# Altium footprint library ZIN-A.PcbLib: 24 footprints (part 1 of 2)
Each footprint in its own frame and in the unit in brackets; x right, y up, seen from the top. Pads: shape width x height; smd on the part's side, far side on the other; paste and mask are expansions set on the pad; w line width, h text height; cw(c..) or ccw(c..) is an arc to the next point about the centre after c.
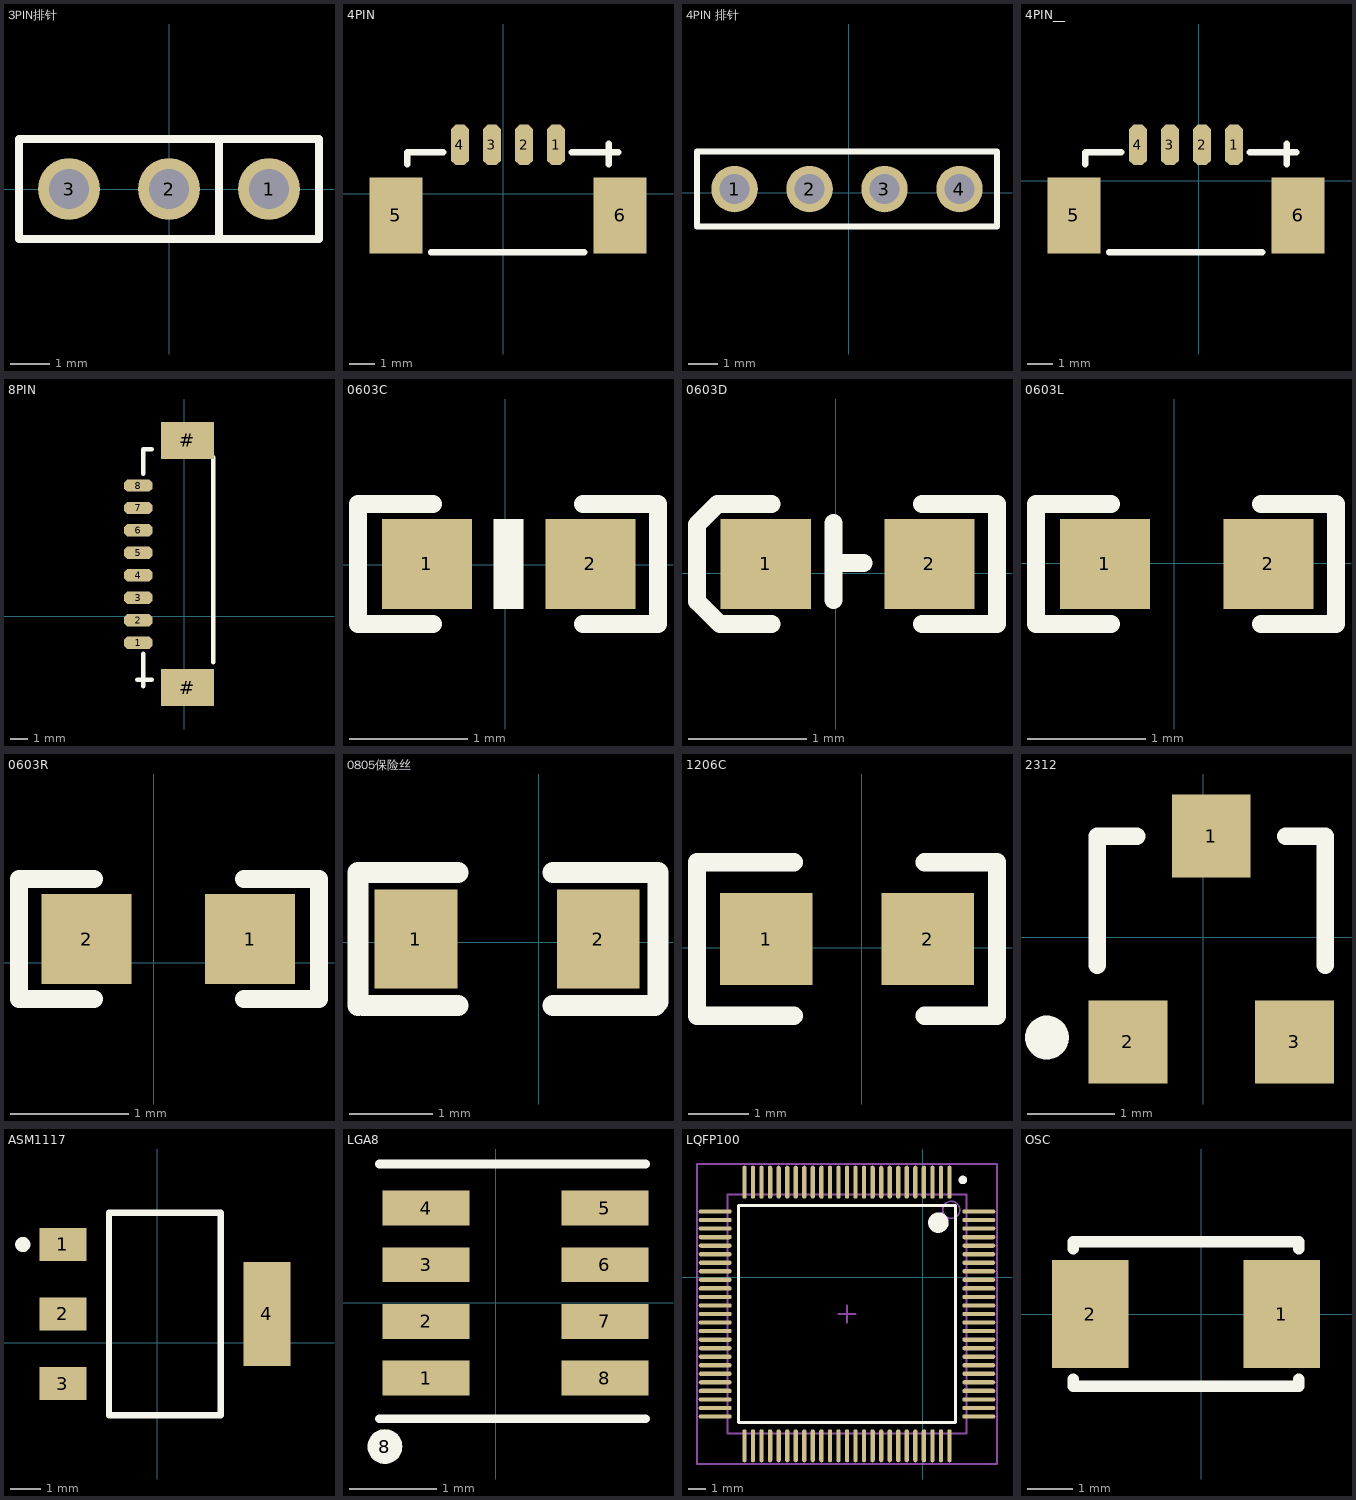
[diagram p0: the footprints below, top view; thin cyan lines are the x and y axes]

## 3PIN排针 [mil]
pads (3):
  round 62 hole 40: 1(100,0) 2(0,0) 3(-100,0)
Top Overlay:
  lines w8: 50,-50 50,50 ; -150,-50 -150,50 150,50 150,-50 -150,-50
3D body: height 290, standoff -113.3, extent -497.66,-51 111,49

## 4PIN [mm]
pads (6):
  oct 0.7x1.6 smd: 1(2.103,1.935) 2(0.833,1.935) 3(-0.437,1.935) 4(-1.707,1.935)
  rect 2.1x3 smd: 5(-4.247,-0.859) 6(4.643,-0.859)
Top Overlay:
  lines w0.254: -3.802,1.173 -3.802,1.638 -3.202,1.638 -2.368,1.638 ; -2.852,-2.312 3.223,-2.312 ; 2.727,1.638 3.553,1.638 4.198,1.638 ; 4.198,1.173 4.198,1.638 ; 4.198,1.988 4.198,1.638 ; 4.573,1.638 4.198,1.638
3D body: height 3.4, standoff 0, extent -4.872,-2.879 5.278,2.311

## 4PIN 排针 [mil]
pads (4):
  round 62 hole 40: 1(-152,5) 2(-52,5) 3(48,5) 4(148,5)
Top Overlay:
  lines w8: -202,-45 -202,55 198,55 198,-45 -202,-45

## 4PIN__ [mm]
pads (6):
  oct 0.7x1.6 smd: 1(1.391,1.427) 2(0.121,1.427) 3(-1.149,1.427) 4(-2.419,1.427)
  rect 2.1x3 smd: 5(-4.959,-1.367) 6(3.931,-1.367)
Top Overlay:
  lines w0.254: -4.514,0.665 -4.514,1.13 -3.914,1.13 -3.08,1.13 ; -3.564,-2.82 2.511,-2.82 ; 2.015,1.13 2.841,1.13 3.486,1.13 ; 3.486,0.665 3.486,1.13 ; 3.486,1.48 3.486,1.13 ; 3.861,1.13 3.486,1.13
3D body: height 4.7, standoff 0, extent -5.608,-2.718 4.542,1.382

## 8PIN [mm]
pads (10):
  oct 1.6x0.7 smd: 1(-2.607,-1.497) 2(-2.607,-0.227) 3(-2.607,1.043) 4(-2.607,2.313) 5(-2.6,3.59) 6(-2.6,4.86) 7(-2.6,6.13) 8(-2.6,7.4)
  rect 3x2.1 smd: #(0.187,-4.037) #(0.187,9.953)
Top Overlay:
  lines w0.254: -2.66,-3.592 -2.31,-3.592 ; -2.31,-3.967 -2.31,-3.592 ; -2.31,-2.121 -2.31,-2.947 -2.31,-3.592 ; -2.31,8.074 -2.31,8.908 ; -2.31,8.858 -2.31,9.458 -1.845,9.458 ; -1.845,-3.592 -2.31,-3.592 ; 1.64,-2.617 1.651,9.017
3D body: height 3.4, standoff 0, extent -3.133,-4.629 2.057,10.521

## 0603C [mil]
pads (2):
  rect 30x30 smd: 1(-26.01,0.24) 2(28.49,0.18)
Top Overlay:
  region: 6.2,-14.79 6.2,15.21 -3.8,15.21 -3.8,-14.79
  lines w6: -24.01,-19.82 -49.01,-19.82 -49.01,20.18 -24.01,20.18 ; 25.99,-19.82 50.99,-19.82 50.99,20.18 25.98,20.18
3D body: height 11.89, standoff 0, extent -31.32,-15.88 31.67,15.62

## 0603D [mil]
pads (2):
  rect 30x30 smd: 1(-23.27,3.22) 2(31.23,3.16)
Top Overlay:
  lines w6: -21.27,-16.84 -38.58,-16.84 -46.16,-9.26 -46.16,16.33 -39.33,23.16 -21.27,23.16 ; -0.69,-8.87 -0.69,16.72 ; 1.48,3.53 9.24,3.43 ; 28.73,-16.84 53.73,-16.84 53.73,23.16 28.73,23.16
3D body: height 34.92, standoff -0.51, extent -29.49,-14.52 37.44,20.91

## 0603L [mil]
pads (2):
  rect 30x30 smd: 1(-23.05,-0.11) 2(31.45,-0.18)
Top Overlay:
  lines w6: -21.05,-20.18 -46.05,-20.18 -46.05,19.82 -21.05,19.82 ; 28.95,-20.18 53.95,-20.18 53.95,19.82 28.95,19.82
3D body: height 34.92, standoff -0.51, extent -29.26,-17.86 37.67,17.58

## 0603R [mil]
pads (2):
  rect 30x30 smd: 1(32.12,7.85) 2(-22.38,7.92)
Top Overlay:
  lines w6: -19.88,-12.08 -44.88,-12.08 -44.88,27.92 -19.88,27.92 ; 30.12,-12.08 55.12,-12.08 55.12,27.92 30.12,27.92
3D body: height 17.72, standoff 0, extent -27.61,-8.81 35.38,23.47

## 0805保险丝 [mm]
pads (2):
  rect 1x1.2 smd: 1(-1.479,0.039) 2(0.721,0.039)
Top Overlay:
  lines w0.254: -2.179,-0.761 -2.179,0.839 -0.971,0.839 ; -2.117,-0.761 -0.971,-0.761 ; 0.172,-0.761 1.404,-0.761 1.442,-0.723 1.442,0.839 0.172,0.839
3D body: height 0.3, standoff 0, extent -1.504,-0.636 0.746,0.714
3D body: height 0.3, standoff 0, extent -1.829,-0.636 -1.504,0.714
3D body: height 0.3, standoff 0, extent 0.746,-0.636 1.071,0.714

## 1206C [mil]
pads (2):
  rect 60x60 smd: 1(-62.07,5.73) 2(42.93,5.73)
Top Overlay:
  lines w12: -44.07,-44.27 -107.07,-44.27 -107.07,55.73 -44.07,55.73 ; 40.93,-44.27 87.93,-44.27 87.93,55.73 40.93,55.73
3D body: height 70.87, standoff 0, extent -74.93,-30 58.93,40.87

## 2312 [mm]
pads (3):
  rect 0.9x0.95 smd: 1(0.093,1.158) 2(-0.857,-1.192) 3(1.043,-1.192)
Top Overlay:
  circle w0.25: c-1.782,-1.142 r0.125
  lines w0.2: -1.207,-0.317 -1.207,1.158 -0.757,1.158 ; 0.943,1.158 1.393,1.158 1.393,-0.317

## ASM1117 [mm]
pads (4):
  rect 1.55x1.1 smd: 1(-3.123,3.253) 2(-3.123,0.953) 3(-3.123,-1.347)
  rect 1.55x3.45 smd: 4(3.627,0.953)
Top Overlay:
  circle w0.25: c-4.448,3.253 r0.125
  lines w0.2: -1.598,-2.397 -1.598,4.303 2.102,4.303 2.102,-2.397 -1.598,-2.397
3D body: height 1.65, standoff -0.03, extent -3.355,-2.222 3.605,4.278

## LGA8 [mm]
pads (9):
  rect 1x0.4 smd: 1(-0.799,-0.867) 2(-0.799,-0.217) 3(-0.799,0.433) 4(-0.799,1.083) 5(1.251,1.083) 6(1.251,0.433) 7(1.251,-0.217) 8(1.251,-0.867)
  round 0.4 on Top Overlay: 8(-1.27,-1.651)
Top Overlay:
  lines w0.1: -1.332,-1.333 1.716,-1.333 ; -1.332,1.588 1.716,1.588
3D body: height 0.85, standoff -0.01, extent -0.746,-1.143 1.254,1.357

## LQFP100 [mm]
pads (100):
  oval 0.25x1.931 smd: 1(1.551,5.569) 2(1.051,5.569) 3(0.551,5.569) 4(0.051,5.569) 5(-0.449,5.569) 6(-0.949,5.569) 7(-1.449,5.569) 8(-1.949,5.569) 9(-2.449,5.569) 10(-2.949,5.569) 11(-3.449,5.569) 12(-3.949,5.569) 13(-4.449,5.569) 14(-4.949,5.569) 15(-5.449,5.569) 16(-5.949,5.569) 17(-6.449,5.569) 18(-6.949,5.569) 19(-7.449,5.569) 20(-7.949,5.569) 21(-8.449,5.569) 22(-8.949,5.569) 23(-9.449,5.569) 24(-9.949,5.569) 25(-10.449,5.569) 51(-10.449,-9.862) 52(-9.949,-9.862) 53(-9.449,-9.862) 54(-8.949,-9.862) 55(-8.449,-9.862) 56(-7.949,-9.862) 57(-7.449,-9.862) 58(-6.949,-9.862) 59(-6.449,-9.862) 60(-5.949,-9.862) 61(-5.449,-9.862) 62(-4.949,-9.862) 63(-4.449,-9.862) 64(-3.949,-9.862) 65(-3.449,-9.862) 66(-2.949,-9.862) 67(-2.449,-9.862) 68(-1.949,-9.862) 69(-1.449,-9.862) 70(-0.949,-9.862) 71(-0.449,-9.862) 72(0.051,-9.862) 73(0.551,-9.862) 74(1.051,-9.862) 75(1.551,-9.862)
  oval 1.931x0.25 smd: 26(-12.164,3.854) 27(-12.164,3.354) 28(-12.164,2.854) 29(-12.164,2.354) 30(-12.164,1.854) 31(-12.164,1.354) 32(-12.164,0.854) 33(-12.164,0.354) 34(-12.164,-0.146) 35(-12.164,-0.646) 36(-12.164,-1.146) 37(-12.164,-1.646) 38(-12.164,-2.146) 39(-12.164,-2.646) 40(-12.164,-3.146) 41(-12.164,-3.646) 42(-12.164,-4.146) 43(-12.164,-4.646) 44(-12.164,-5.146) 45(-12.164,-5.646) 46(-12.164,-6.146) 47(-12.164,-6.646) 48(-12.164,-7.146) 49(-12.164,-7.646) 50(-12.164,-8.146) 76(3.267,-8.146) 77(3.267,-7.646) 78(3.267,-7.146) 79(3.267,-6.646) 80(3.267,-6.146) 81(3.267,-5.646) 82(3.267,-5.146) 83(3.267,-4.646) 84(3.267,-4.146) 85(3.267,-3.646) 86(3.267,-3.146) 87(3.267,-2.646) 88(3.267,-2.146) 89(3.267,-1.646) 90(3.267,-1.146) 91(3.267,-0.646) 92(3.267,-0.146) 93(3.267,0.354) 94(3.267,0.854) 95(3.267,1.354) 96(3.267,1.854) 97(3.267,2.354) 98(3.267,2.854) 99(3.267,3.354) 100(3.267,3.854)
Top Overlay:
  circle w0.6: c0.901,3.204 r0.3
  circle w0.25: c2.334,5.704 r0.125
  lines w0.2: -10.799,-8.496 -10.799,4.204 1.901,4.204 1.901,-8.496 -10.799,-8.496
Mechanical 13:
  circle w0.1: c1.651,3.954 r0.5
  lines w0.1: -11.449,-9.146 -11.449,4.854 2.551,4.854 2.551,-9.146 -11.449,-9.146
Mechanical 15:
  lines w0.1: -4.949,-2.146 -3.949,-2.146 ; -4.449,-2.646 -4.449,-1.646 ; -13.23,-10.927 -13.23,6.635 4.332,6.635 4.332,-10.927 -13.23,-10.927
3D body: height 1.45, standoff 0, extent -12.448,-10.164 3.558,5.842

## OSC [mm]
pads (2):
  rect 1.7x2.4 smd: 1(1.785,0.001) 2(-2.465,0.001)
Top Overlay:
  lines w0.254: -2.84,-1.449 -2.84,-1.599 2.16,-1.599 2.16,-1.449 ; -2.84,1.451 -2.84,1.601 2.16,1.601 2.16,1.451
3D body: height 0.86, standoff 0.04, extent -2.805,-1.6 2.195,1.6